# EAGLE library part 1X09 (library PiB_connectors)
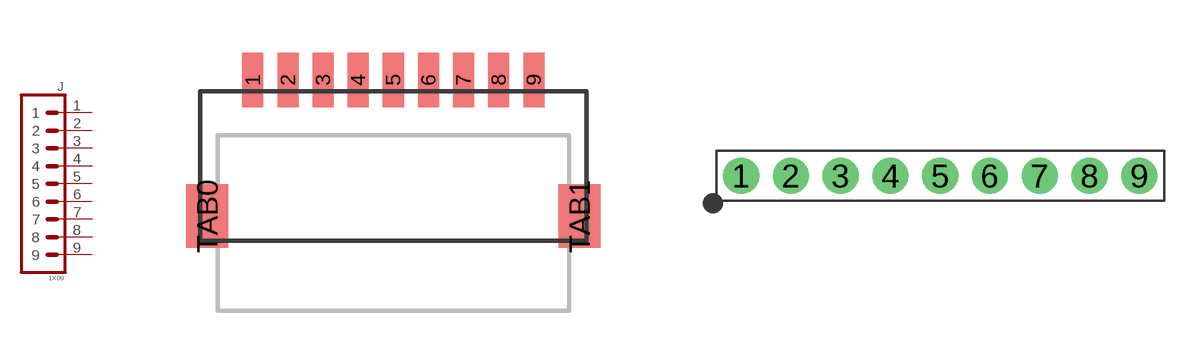
[diagram p15: symbol with the pads of SM09B-SRSS-TB; footprints SM09B-SRSS-TB, HDRV9W64P254_1X9_2286X254X838B]

Designator prefix J

## 1X09_SM09B-SRSS-TB (DATASHEET: http://www.jst-mfg.com/product/pdf/eng/eSH.pdf; DATASHEET_CRIMP: http://www.jst-mfg.com/product/pdf/eng/eSH.pdf; DATASHEET_HOUSING: http://www.jst-mfg.com/product/pdf/eng/eSH.pdf; DIST: Digikey; DISTLINK: https://www.digikey.com/products/en?keywords=455-1809-1-ND; DISTLINK_CRIMP: https://www.digikey.com/products/en?keywords=455-1561-1-ND; DISTLINK_HOUSING: https://www.digikey.com/products/en?keywords=455-1399-ND; DISTPN: 455-1809-1-ND; DISTPN_CRIMP: 455-1561-1-ND; DISTPN_HOUSING: 455-1399-ND; DIST_CRIMP: Digikey; DIST_HOUSING: Digikey; MFR: JST Sales America Inc.; MFR_CRIMP: JST Sales America Inc.; MFR_HOUSING: JST Sales America Inc.; MPN: SM09B-SRSS-TB(LF)(SN); MPN_CRIMP: SSH-003T-P0.2; MPN_HOUSING: SHR-09V-S; VALUE: SM09B-SRSS-TB)  [SM09B-SRSS-TB]
1  1  pas
2  2  pas
3  3  pas
4  4  pas
5  5  pas
6  6  pas
7  7  pas
8  8  pas
9  9  pas

## 1X09_PTH_VERT_MALE_2.54MM (DATASHEET: https://drawings-pdf.s3.amazonaws.com/C10436.pdf; DIST: Digikey; DISTLINK: https://www.digikey.com/products/en?keywords=S1012E-09-ND; DISTPN: S1012E-09-ND; MFR: Sullins Connector Solutions; MPN: PEC09SAAN; VALUE: PTH VERT MALE)  [HDRV9W64P254_1X9_2286X254X838B]
Pads as for SM09B-SRSS-TB

## Footprint SM09B-SRSS-TB (pad centres in mm)
smd 0.6 x 1.55: 1 -4,2.45; 2 -3,2.45; 3 -2,2.45; 4 -1,2.45; 5 0,2.45; 6 1,2.45; 7 2,2.45; 8 3,2.45; 9 4,2.45
smd 1.2 x 1.8: TAB0 -5.3,-1.425; TAB1 5.3,-1.425

## Footprint HDRV9W64P254_1X9_2286X254X838B (pad centres in mm)
Single-row, 9-pin Pin Header (Male) Straight, 2.54 mm (0.10 in) col pitch, 5.84 mm mating length, 22.86 X 2.54 X 8.38 mm body Single-row (1X9), 9-pin Pin Header (Male) Straight package with 2.54 mm (0.10 in) col pitch, 0.64 mm lead width, 3.05 mm tail length and 5.84 mm mating length with overall size 22.86 X 2.54 X 8.38 mm, pin pattern - zigzag from bottom left
drill 1 pad 1.85: 1 -10.16,0; 2 -7.62,0; 3 -5.08,0; 4 -2.54,0; 5 0,0; 6 2.54,0; 7 5.08,0; 8 7.62,0; 9 10.16,0